# Altium schematic symbol library SCH - CONNECTORS - HDMI CONNECTOR.SCHLIB: 1 symbol
Pins are listed as number, name and electrical type; pins without a type are passive.

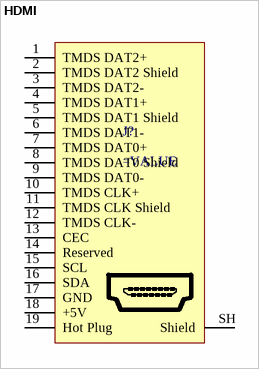
[diagram p0: symbol HDMI]

## HDMI
designator J?
pins: 1 TMDS DAT2+, 2 TMDS DAT2 Shield, 3 TMDS DAT2-, 4 TMDS DAT1+, 5 TMDS DAT1 Shield, 6 TMDS DAT1-, 7 TMDS DAT0+, 8 TMDS DAT0 Shield, 9 TMDS DAT0-, 10 TMDS CLK+, 11 TMDS CLK Shield, 12 TMDS CLK-, 13 CEC, 14 Reserved, 15 SCL, 16 SDA, 17 GND, 18 +5V, 19 Hot Plug, SH Shield